# EAGLE library part LM555 (library SparkFun)
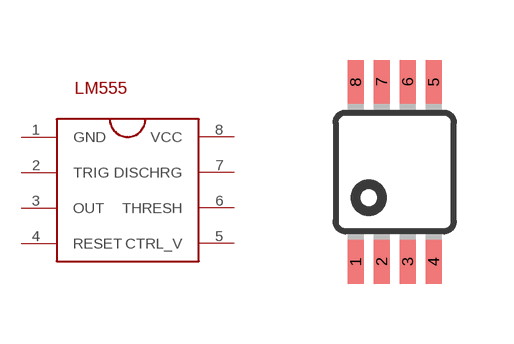
[diagram p390: symbol with the pads of MSOP8; footprint MSOP8]

Designator prefix -

## LM555  [MSOP8]
1  GND
2  TRIG
3  OUT
4  RESET
5  CTRL_V
6  THRESH
7  DISCHRG
8  VCC

## Footprint MSOP8 (pad centres in mm)
8M, 8-Lead, 0.118" Wide, Miniature Small Outline Package MSOP 8M-Package doc1097.pdf
smd 0.4 x 1.1: 1 -0.975,-2.25; 2 -0.325,-2.25; 3 0.325,-2.25; 4 0.975,-2.25; 5 0.975,2.25; 6 0.325,2.25; 7 -0.325,2.25; 8 -0.975,2.25